# Altium schematic symbol library LTC6655LN.SchLib: 1 symbol
Pins are listed as number, name and electrical type; pins without a type are passive.

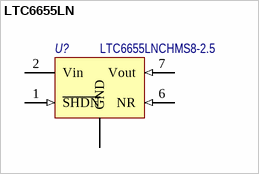
[diagram p0: symbol LTC6655LN]

## LTC6655LN
designator U?  Наименование: LTC6655LNCHMS8-2.5  (hidden comment: LTC6655LN)
0.25ppm Noise, Low Drift Precision References; Потребление, Вт: 0,005; Назначение: 0.25ppm Noise, Low Drift Precision References; ComponentLink1Description: DataSheet; ComponentLink1URL: https://www.analog.com/media/en/technical-documentation/data-sheets/ltc6655-6655ln.pdf
footprint MSOP-8
pins: 1 ~{SHDN} (in), 2 Vin (power), 3 GND (power), 4 GND (power), 5 GND (power), 6 NR (in), 7 Vout (in), 8 GND (power)